# EAGLE library part ADAFRUITST7735R_18 (library AdafruitST7735R_18)
Device for https://www.adafruit.com/product/358
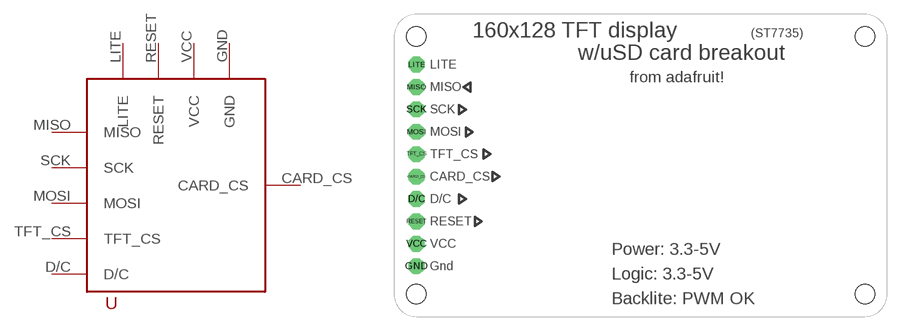
[diagram p0: symbol with the pads of ADAFRUITST7735R_18; footprint ADAFRUITST7735R_18]

Designator prefix -

## ADAFRUITST7735R_18  [ADAFRUITST7735R_18]
CARD_CS  CARD_CS
D/C  D/C
GND  GND
LITE  LITE
MISO  MISO
MOSI  MOSI
RESET  RESET
SCK  SCK
TFT_CS  TFT_CS
VCC  VCC

## Footprint ADAFRUITST7735R_18 (pad centres in mm)
Package for Adafruit 1.8" ST7735R breakout (https://www.adafruit.com/product/358). Largely stolen from here (https://github.com/adafruit/Adafruit-1.8-TFT-Shield)
drill 1 pad 1.778 octagon: CARD_CS -25.4,-1.27; D/C -25.4,-3.81; GND -25.4,-11.43; LITE -25.4,11.43; MISO -25.4,8.89; MOSI -25.4,3.81; RESET -25.4,-6.35; SCK -25.4,6.35; TFT_CS -25.4,1.27; VCC -25.4,-8.89
hole 2.2 at -25.4,14.605
hole 2.2 at -25.4,-14.605
hole 2.2 at 25.4,-14.605
hole 2.2 at 25.4,14.605